# EAGLE library part BQ4802Y (library Z80 clock)
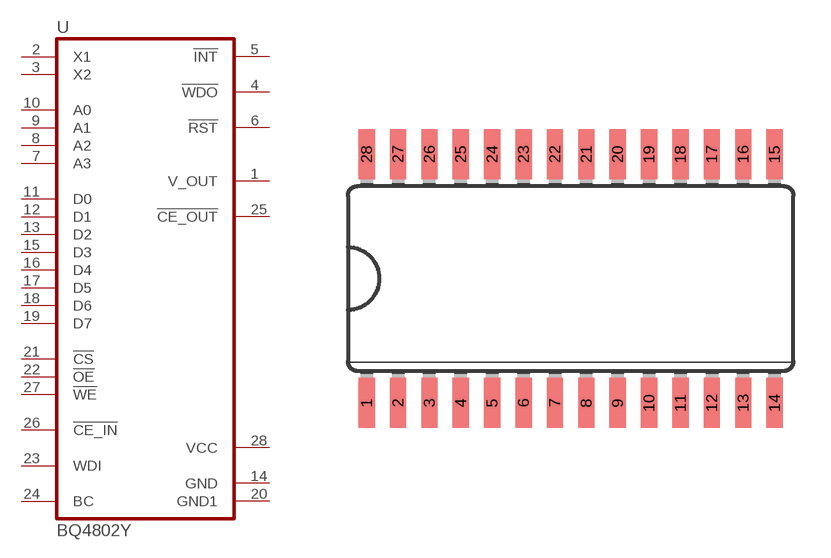
[diagram p6: symbol with the pads of SO28W; footprint SO28W]

Designator prefix U

## BQ4802YDW  [SO28W]
1  V_OUT
2  X1  in
3  X2  in
4  !WDO!  out
5  !INT!  oc
6  !RST!  oc
7  A3  in
8  A2  in
9  A1  in
10  A0  in
11  D0
12  D1
13  D2
14  GND  pwr
15  D3
16  D4
17  D5
18  D6
19  D7
20  GND1  pwr
21  !CS!  in
22  !OE!  in
23  WDI  in
24  BC  pwr
25  !CE_OUT!
26  !CE_IN!  in
27  !WE!  in
28  VCC  pwr

## Footprint SO28W (pad centres in mm)
Wide Small Outline package 300 mil
smd 0.66 x 2.032: 1 -8.255,-5.029; 2 -6.985,-5.029; 3 -5.715,-5.029; 4 -4.445,-5.029; 5 -3.175,-5.029; 6 -1.905,-5.029; 7 -0.635,-5.029; 8 0.635,-5.029; 9 1.905,-5.029; 10 3.175,-5.029; 11 4.445,-5.029; 12 5.715,-5.029; 13 6.985,-5.029; 14 8.255,-5.029; 15 8.255,5.029; 16 6.985,5.029; 17 5.715,5.029; 18 4.445,5.029; 19 3.175,5.029; 20 1.905,5.029; 21 0.635,5.029; 22 -0.635,5.029; 23 -1.905,5.029; 24 -3.175,5.029; 25 -4.445,5.029; 26 -5.715,5.029; 27 -6.985,5.029; 28 -8.255,5.029